# Altium footprint library PCB - LEADLESS - QFN - TI VQFN-20 RJE0020B.PcbLib: 1 footprints
Each footprint in its own frame and in the unit in brackets; x right, y up, seen from the top. Pads: shape width x height; smd on the part's side, far side on the other; paste and mask are expansions set on the pad; w line width, h text height; cw(c..) or ccw(c..) is an arc to the next point about the centre after c.
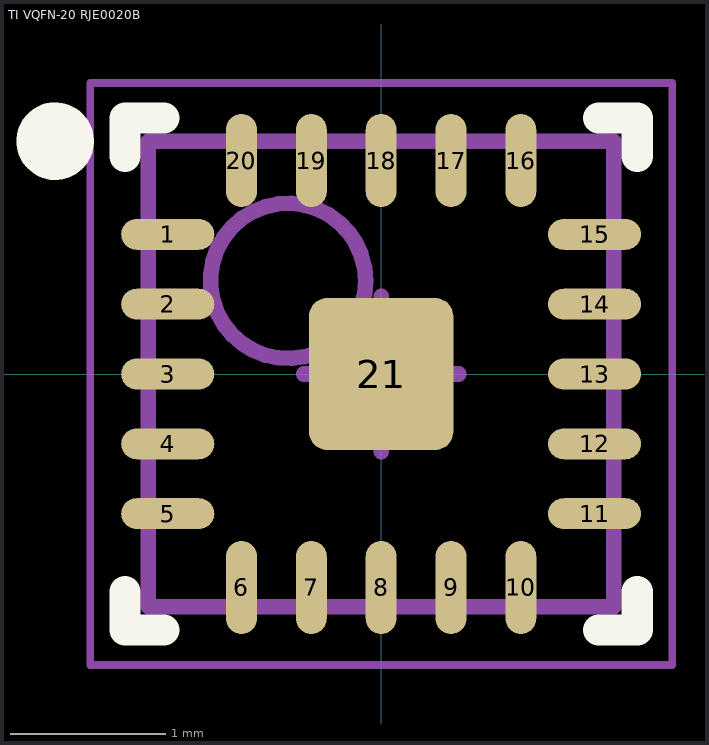
[diagram p0: the footprint, top view; thin cyan lines are the x and y axes]

## TI VQFN-20 RJE0020B [mm] "QFN, 20-Leads, Body 3.00x3.00mm, Pitch 0.45mm, Thermal Pad 0.93x0.98mm, IPC Medium Density"
height 1
pads (21):
  oval 0.6x0.2 smd: 1(-1.375,0.9) 2(-1.375,0.45) 3(-1.375,0) 4(-1.375,-0.45) 5(-1.375,-0.9) 11(1.375,-0.9) 12(1.375,-0.45) 13(1.375,0) 14(1.375,0.45) 15(1.375,0.9)
  oval 0.2x0.6 smd: 6(-0.9,-1.375) 7(-0.45,-1.375) 8(0,-1.375) 9(0.45,-1.375) 10(0.9,-1.375) 16(0.9,1.375) 17(0.45,1.375) 18(0,1.375) 19(-0.45,1.375) 20(-0.9,1.375)
  rrect25% 0.93x0.98 smd: 21(0,0)
Top Overlay:
  circle w0.25: c-2.1,1.5 r0.125
  lines w0.2: -1.65,-1.4 -1.65,-1.65 -1.4,-1.65 ; -1.65,1.4 -1.65,1.65 -1.4,1.65 ; 1.4,-1.65 1.65,-1.65 1.65,-1.4 ; 1.4,1.65 1.65,1.65 1.65,1.4
Mechanical 13:
  circle w0.1: c-0.6,0.6 r0.5
  lines w0.1: -1.5,-1.5 1.5,-1.5 1.5,1.5 -1.5,1.5 -1.5,-1.5
Mechanical 15:
  lines w0.05: -1.875,-1.875 -1.875,1.875 1.875,1.875 1.875,-1.875 -1.875,-1.875
  lines w0.1: -0.5,0 0.5,0 ; 0,-0.5 0,0.5
3D body "TI - VQFN-20 - RJE0020B v1.step": height 1, standoff 0, extent -1.5,-1.5 1.5,1.5